# EAGLE library part PAM8019 (library pimoroni-ics)
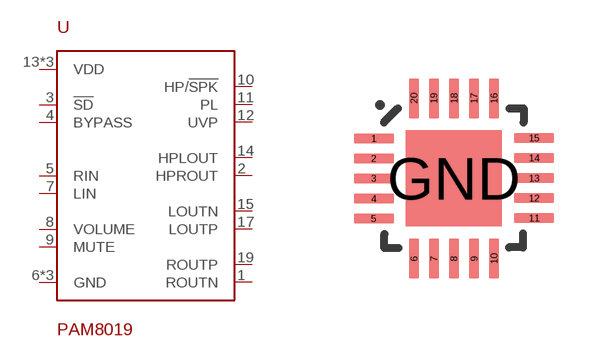
[diagram p91: symbol with the pads of QFN-20; footprint QFN-20]

Designator prefix -

## PAM8019  [QFN-20]
1  ROUTN
2  HPROUT
3  !SD
4  BYPASS
5  RIN
6  GND
7  LIN
8  VOLUME
9  MUTE
10  HP/!SPK
11  PL
12  UVP
13  VDD
14  HPLOUT
15  LOUTN
16  VDD
17  LOUTP
18  GND
19  ROUTP
20  VDD
GND  GND

## Footprint QFN-20 (pad centres in mm)
smd 1 x 0.25: 1 -2.005,1; 2 -2.005,0.502; 3 -2.005,0.004; 4 -2.005,-0.504; 5 -2.005,-1.002; 11 2.005,-0.99; 12 2.005,-0.492; 13 2.005,0.006; 14 2.005,0.514; 15 2.005,1.012
smd 0.25 x 1: 6 -1,-2.005; 7 -0.502,-2.005; 8 -0.004,-2.005; 9 0.504,-2.005; 10 1.002,-2.005; 16 1,2.005; 17 0.502,2.005; 18 0.004,2.005; 19 -0.504,2.005; 20 -1.002,2.005
smd 2.4 x 2.4: GND 0,0